# Altium footprint library Gennum Footprints.PcbLib: 88 footprints (part 1 of 6)
Each footprint in its own frame and in the unit in brackets; x right, y up, seen from the top. Pads: shape width x height; smd on the part's side, far side on the other; paste and mask are expansions set on the pad; w line width, h text height; cw(c..) or ccw(c..) is an arc to the next point about the centre after c.
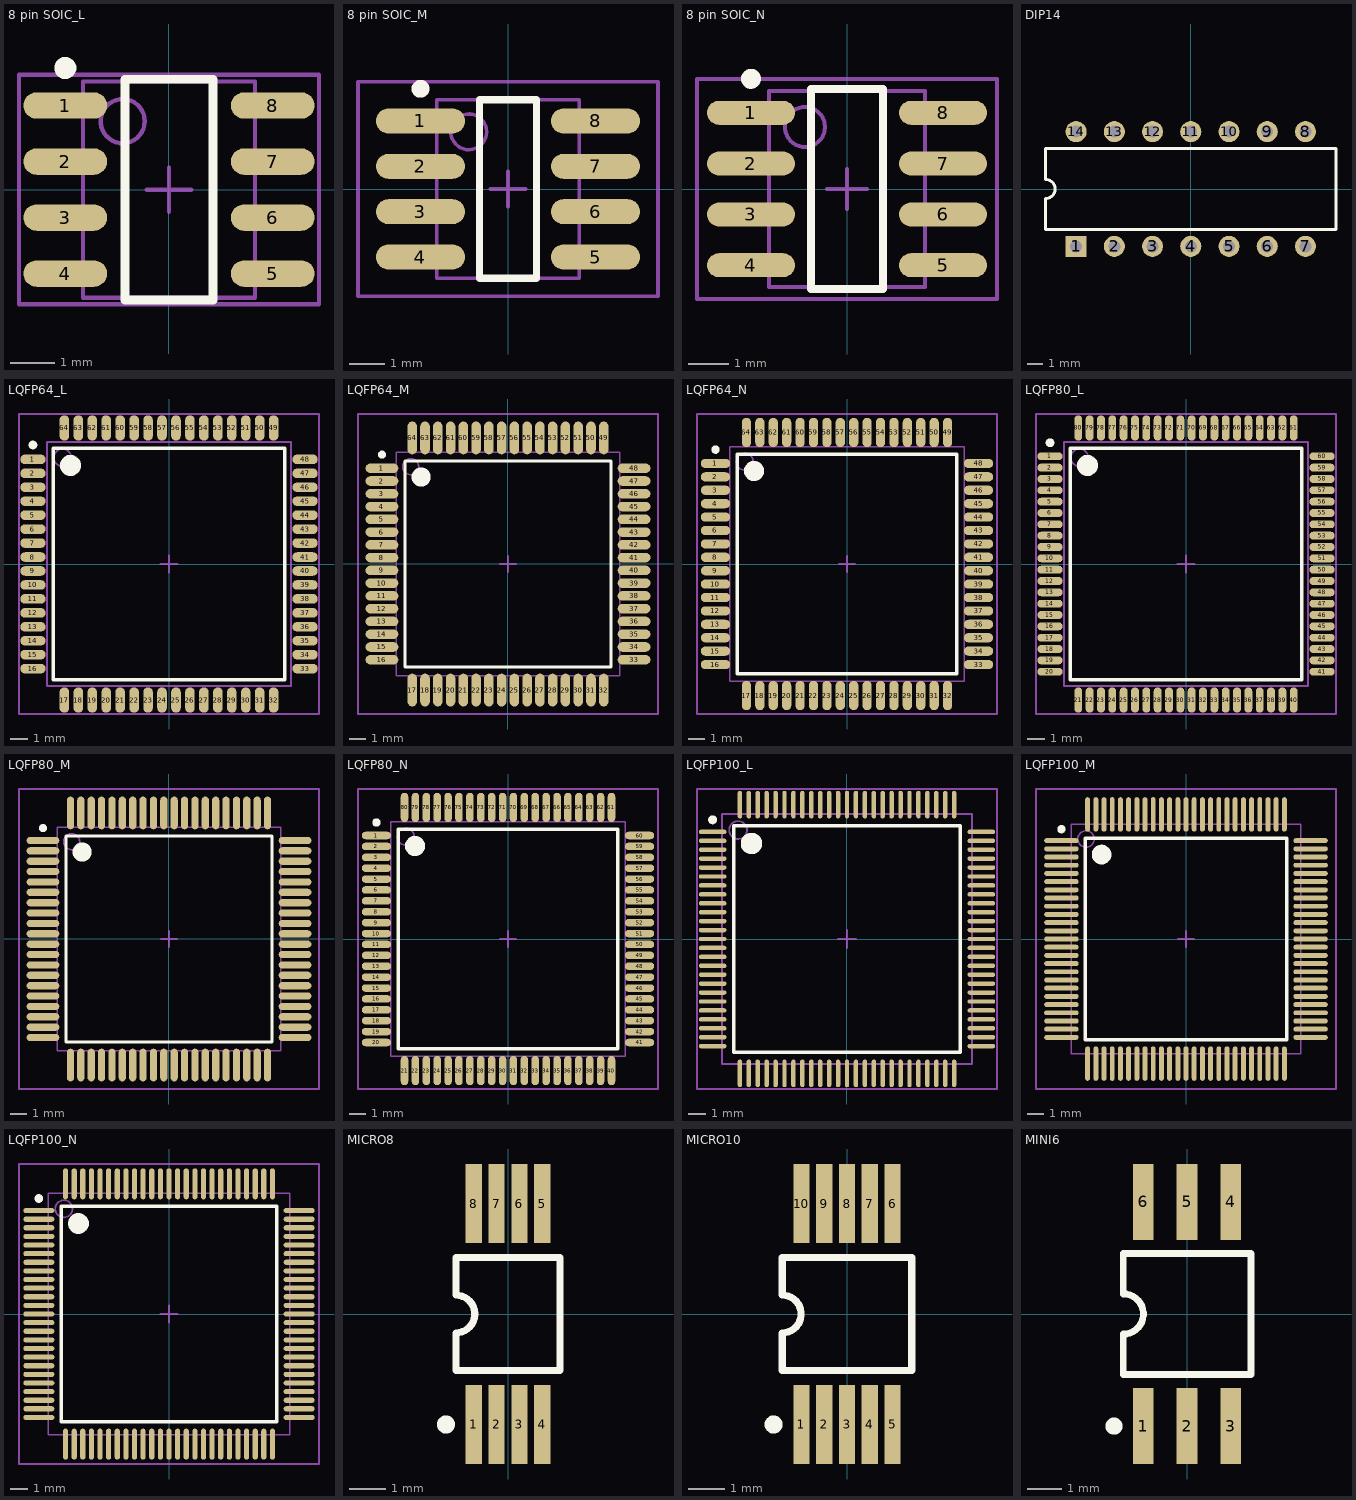
[diagram p0: the footprints below, top view; thin cyan lines are the x and y axes]

## 8 pin SOIC_L [mm] "8-Pin Small Outline Integrated Circuit 1.27 mm Pitch, IPC High Density"
height 1.91
pads (8):
  oval 1.9x0.6 smd: 1(-2.35,1.905) 2(-2.35,0.635) 3(-2.35,-0.635) 4(-2.35,-1.905) 5(2.35,-1.905) 6(2.35,-0.635) 7(2.35,0.635) 8(2.35,1.905)
Top Overlay:
  circle w0.25: c-2.35,2.755 r0.125
  lines w0.2: -1,-2.5 1,-2.5 1,2.5 -1,2.5 -1,-2.5
Mechanical 13:
  circle w0.1: c-1.05,1.55 r0.5
  lines w0.1: -1.95,-2.45 1.95,-2.45 1.95,2.45 -1.95,2.45 -1.95,-2.45
Mechanical 15:
  lines w0.1: -0.5,0 0.5,0 ; 0,-0.5 0,0.5 ; -3.4,-2.6 3.4,-2.6 3.4,2.6 -3.4,2.6 -3.4,-2.6
3D body: height 1.91, standoff 0, extent -1.95,-2.45 1.95,2.45

## 8 pin SOIC_M [mm] "8-Pin Small Outline Integrated Circuit 1.27 mm Pitch, IPC Low Density"
height 1.91
pads (8):
  oval 2.5x0.7 smd: 1(-2.45,1.905) 2(-2.45,0.635) 3(-2.45,-0.635) 4(-2.45,-1.905) 5(2.45,-1.905) 6(2.45,-0.635) 7(2.45,0.635) 8(2.45,1.905)
Top Overlay:
  circle w0.25: c-2.45,2.805 r0.125
  lines w0.2: -0.8,-2.5 -0.8,2.5 0.8,2.5 0.8,-2.5 -0.8,-2.5
Mechanical 13:
  circle w0.1: c-1.1,1.6 r0.5
  lines w0.1: -2,-2.5 -2,2.5 2,2.5 2,-2.5 -2,-2.5
Mechanical 15:
  lines w0.1: -0.5,0 0.5,0 ; 0,-0.5 0,0.5 ; -4.2,-3 -4.2,3 4.2,3 4.2,-3 -4.2,-3
3D body: height 1.91, standoff 0, extent -2,-2.5 2,2.5

## 8 pin SOIC_N [mm] "8-Pin Small Outline Integrated Circuit 1.27 mm Pitch, IPC Medium Density"
height 1.91
pads (8):
  oval 2.2x0.6 smd: 1(-2.4,1.905) 2(-2.4,0.635) 3(-2.4,-0.635) 4(-2.4,-1.905) 5(2.4,-1.905) 6(2.4,-0.635) 7(2.4,0.635) 8(2.4,1.905)
Top Overlay:
  circle w0.25: c-2.4,2.755 r0.125
  lines w0.2: -0.9,-2.5 -0.9,2.5 0.9,2.5 0.9,-2.5 -0.9,-2.5
Mechanical 13:
  circle w0.1: c-1.05,1.55 r0.5
  lines w0.1: -1.95,-2.45 -1.95,2.45 1.95,2.45 1.95,-2.45 -1.95,-2.45
Mechanical 15:
  lines w0.1: -0.5,0 0.5,0 ; 0,-0.5 0,0.5 ; -3.75,-2.75 -3.75,2.75 3.75,2.75 3.75,-2.75 -3.75,-2.75
3D body: height 1.91, standoff 0, extent -1.95,-2.45 1.95,2.45

## DIP14 [mm] "DIP; 14 Leads; Row Spacing 7.62 mm; Pitch 2.54 mm"
height 4
pads (14):
  rect 1.4x1.4 hole 0.8: 1(-7.62,-3.81)
  round 1.4 hole 0.8: 2(-5.08,-3.81) 3(-2.54,-3.81) 4(0,-3.81) 5(2.54,-3.81) 6(5.08,-3.81) 7(7.62,-3.81) 8(7.62,3.81) 9(5.08,3.81) 10(2.54,3.81) 11(0,3.81) 12(-2.54,3.81) 13(-5.08,3.81) 14(-7.62,3.81)
Top Overlay:
  lines w0.2: -9.65,-2.7 9.65,-2.7 9.65,2.7 -9.65,2.7 -9.65,0.635 cw(c-9.65,0) -9.65,-0.635 -9.65,-2.7

## LQFP64_L [mm] "64-Pin Thin Quad Flat Pack 0.8 mm Pitch, IPC High Density"
height 1.6
pads (64):
  oval 1.45x0.55 smd: 1(-7.8,6) 2(-7.8,5.2) 3(-7.8,4.4) 4(-7.8,3.6) 5(-7.8,2.8) 6(-7.8,2) 7(-7.8,1.2) 8(-7.8,0.4) 9(-7.8,-0.4) 10(-7.8,-1.2) 11(-7.8,-2) 12(-7.8,-2.8) 13(-7.8,-3.6) 14(-7.8,-4.4) 15(-7.8,-5.2) 16(-7.8,-6) 33(7.8,-6) 34(7.8,-5.2) 35(7.8,-4.4) 36(7.8,-3.6) 37(7.8,-2.8) 38(7.8,-2) 39(7.8,-1.2) 40(7.8,-0.4) 41(7.8,0.4) 42(7.8,1.2) 43(7.8,2) 44(7.8,2.8) 45(7.8,3.6) 46(7.8,4.4) 47(7.8,5.2) 48(7.8,6)
  oval 0.55x1.45 smd: 17(-6,-7.8) 18(-5.2,-7.8) 19(-4.4,-7.8) 20(-3.6,-7.8) 21(-2.8,-7.8) 22(-2,-7.8) 23(-1.2,-7.8) 24(-0.4,-7.8) 25(0.4,-7.8) 26(1.2,-7.8) 27(2,-7.8) 28(2.8,-7.8) 29(3.6,-7.8) 30(4.4,-7.8) 31(5.2,-7.8) 32(6,-7.8) 49(6,7.8) 50(5.2,7.8) 51(4.4,7.8) 52(3.6,7.8) 53(2.8,7.8) 54(2,7.8) 55(1.2,7.8) 56(0.4,7.8) 57(-0.4,7.8) 58(-1.2,7.8) 59(-2,7.8) 60(-2.8,7.8) 61(-3.6,7.8) 62(-4.4,7.8) 63(-5.2,7.8) 64(-6,7.8)
Top Overlay:
  circle w0.6: c-5.65,5.65 r0.3
  circle w0.25: c-7.8,6.825 r0.125
  lines w0.2: -6.65,-6.65 6.65,-6.65 6.65,6.65 -6.65,6.65 -6.65,-6.65
Mechanical 13:
  circle w0.1: c-6.1,6.1 r0.5
  lines w0.1: -7,-7 7,-7 7,7 -7,7 -7,-7
Mechanical 15:
  lines w0.1: -0.5,0 0.5,0 ; 0,-0.5 0,0.5 ; -8.6,-8.6 8.6,-8.6 8.6,8.6 -8.6,8.6 -8.6,-8.6
3D body: height 1.6, standoff 0, extent -7,-7 7,7

## LQFP64_M [mm] "64-Pin Thin Quad Flat Pack 0.8 mm Pitch, IPC Low Density"
height 1.6
pads (64):
  oval 2.05x0.6 smd: 1(-7.9,6) 2(-7.9,5.2) 3(-7.9,4.4) 4(-7.9,3.6) 5(-7.9,2.8) 6(-7.9,2) 7(-7.9,1.2) 8(-7.9,0.4) 9(-7.9,-0.4) 10(-7.9,-1.2) 11(-7.9,-2) 12(-7.9,-2.8) 13(-7.9,-3.6) 14(-7.9,-4.4) 15(-7.9,-5.2) 16(-7.9,-6) 33(7.9,-6) 34(7.9,-5.2) 35(7.9,-4.4) 36(7.9,-3.6) 37(7.9,-2.8) 38(7.9,-2) 39(7.9,-1.2) 40(7.9,-0.4) 41(7.9,0.4) 42(7.9,1.2) 43(7.9,2) 44(7.9,2.8) 45(7.9,3.6) 46(7.9,4.4) 47(7.9,5.2) 48(7.9,6)
  oval 0.6x2.05 smd: 17(-6,-7.9) 18(-5.2,-7.9) 19(-4.4,-7.9) 20(-3.6,-7.9) 21(-2.8,-7.9) 22(-2,-7.9) 23(-1.2,-7.9) 24(-0.4,-7.9) 25(0.4,-7.9) 26(1.2,-7.9) 27(2,-7.9) 28(2.8,-7.9) 29(3.6,-7.9) 30(4.4,-7.9) 31(5.2,-7.9) 32(6,-7.9) 49(6,7.9) 50(5.2,7.9) 51(4.4,7.9) 52(3.6,7.9) 53(2.8,7.9) 54(2,7.9) 55(1.2,7.9) 56(0.4,7.9) 57(-0.4,7.9) 58(-1.2,7.9) 59(-2,7.9) 60(-2.8,7.9) 61(-3.6,7.9) 62(-4.4,7.9) 63(-5.2,7.9) 64(-6,7.9)
Top Overlay:
  circle w0.6: c-5.45,5.45 r0.3
  circle w0.25: c-7.9,6.85 r0.125
  lines w0.2: -6.45,-6.45 6.45,-6.45 6.45,6.45 -6.45,6.45 -6.45,-6.45
Mechanical 13:
  circle w0.1: c-6.1,6.1 r0.5
  lines w0.1: -7,-7 7,-7 7,7 -7,7 -7,-7
Mechanical 15:
  lines w0.1: -0.5,0 0.5,0 ; 0,-0.5 0,0.5 ; -9.4,-9.4 9.4,-9.4 9.4,9.4 -9.4,9.4 -9.4,-9.4
3D body: height 1.6, standoff 0, extent -7,-7 7,7

## LQFP64_N [mm] "64-Pin Thin Quad Flat Pack 0.8 mm Pitch, IPC Medium Density"
height 1.6
pads (64):
  oval 1.75x0.55 smd: 1(-7.85,6) 2(-7.85,5.2) 3(-7.85,4.4) 4(-7.85,3.6) 5(-7.85,2.8) 6(-7.85,2) 7(-7.85,1.2) 8(-7.85,0.4) 9(-7.85,-0.4) 10(-7.85,-1.2) 11(-7.85,-2) 12(-7.85,-2.8) 13(-7.85,-3.6) 14(-7.85,-4.4) 15(-7.85,-5.2) 16(-7.85,-6) 33(7.85,-6) 34(7.85,-5.2) 35(7.85,-4.4) 36(7.85,-3.6) 37(7.85,-2.8) 38(7.85,-2) 39(7.85,-1.2) 40(7.85,-0.4) 41(7.85,0.4) 42(7.85,1.2) 43(7.85,2) 44(7.85,2.8) 45(7.85,3.6) 46(7.85,4.4) 47(7.85,5.2) 48(7.85,6)
  oval 0.55x1.75 smd: 17(-6,-7.85) 18(-5.2,-7.85) 19(-4.4,-7.85) 20(-3.6,-7.85) 21(-2.8,-7.85) 22(-2,-7.85) 23(-1.2,-7.85) 24(-0.4,-7.85) 25(0.4,-7.85) 26(1.2,-7.85) 27(2,-7.85) 28(2.8,-7.85) 29(3.6,-7.85) 30(4.4,-7.85) 31(5.2,-7.85) 32(6,-7.85) 49(6,7.85) 50(5.2,7.85) 51(4.4,7.85) 52(3.6,7.85) 53(2.8,7.85) 54(2,7.85) 55(1.2,7.85) 56(0.4,7.85) 57(-0.4,7.85) 58(-1.2,7.85) 59(-2,7.85) 60(-2.8,7.85) 61(-3.6,7.85) 62(-4.4,7.85) 63(-5.2,7.85) 64(-6,7.85)
Top Overlay:
  circle w0.6: c-5.55,5.55 r0.3
  circle w0.25: c-7.85,6.825 r0.125
  lines w0.2: -6.55,-6.55 6.55,-6.55 6.55,6.55 -6.55,6.55 -6.55,-6.55
Mechanical 13:
  circle w0.1: c-6.1,6.1 r0.5
  lines w0.1: -7,-7 7,-7 7,7 -7,7 -7,-7
Mechanical 15:
  lines w0.1: -0.5,0 0.5,0 ; 0,-0.5 0,0.5 ; -8.95,-8.95 8.95,-8.95 8.95,8.95 -8.95,8.95 -8.95,-8.95
3D body: height 1.6, standoff 0, extent -7,-7 7,7

## LQFP80_L [mm] "80-Pin Thin Quad Flat Pack 0.65 mm Pitch, IPC High Density"
height 1.6
pads (80):
  oval 1.45x0.45 smd: 1(-7.8,6.175) 2(-7.8,5.525) 3(-7.8,4.875) 4(-7.8,4.225) 5(-7.8,3.575) 6(-7.8,2.925) 7(-7.8,2.275) 8(-7.8,1.625) 9(-7.8,0.975) 10(-7.8,0.325) 11(-7.8,-0.325) 12(-7.8,-0.975) 13(-7.8,-1.625) 14(-7.8,-2.275) 15(-7.8,-2.925) 16(-7.8,-3.575) 17(-7.8,-4.225) 18(-7.8,-4.875) 19(-7.8,-5.525) 20(-7.8,-6.175) 41(7.8,-6.175) 42(7.8,-5.525) 43(7.8,-4.875) 44(7.8,-4.225) 45(7.8,-3.575) 46(7.8,-2.925) 47(7.8,-2.275) 48(7.8,-1.625) 49(7.8,-0.975) 50(7.8,-0.325) 51(7.8,0.325) 52(7.8,0.975) 53(7.8,1.625) 54(7.8,2.275) 55(7.8,2.925) 56(7.8,3.575) 57(7.8,4.225) 58(7.8,4.875) 59(7.8,5.525) 60(7.8,6.175)
  oval 0.45x1.45 smd: 21(-6.175,-7.8) 22(-5.525,-7.8) 23(-4.875,-7.8) 24(-4.225,-7.8) 25(-3.575,-7.8) 26(-2.925,-7.8) 27(-2.275,-7.8) 28(-1.625,-7.8) 29(-0.975,-7.8) 30(-0.325,-7.8) 31(0.325,-7.8) 32(0.975,-7.8) 33(1.625,-7.8) 34(2.275,-7.8) 35(2.925,-7.8) 36(3.575,-7.8) 37(4.225,-7.8) 38(4.875,-7.8) 39(5.525,-7.8) 40(6.175,-7.8) 61(6.175,7.8) 62(5.525,7.8) 63(4.875,7.8) 64(4.225,7.8) 65(3.575,7.8) 66(2.925,7.8) 67(2.275,7.8) 68(1.625,7.8) 69(0.975,7.8) 70(0.325,7.8) 71(-0.325,7.8) 72(-0.975,7.8) 73(-1.625,7.8) 74(-2.275,7.8) 75(-2.925,7.8) 76(-3.575,7.8) 77(-4.225,7.8) 78(-4.875,7.8) 79(-5.525,7.8) 80(-6.175,7.8)
Top Overlay:
  circle w0.25: c-7.8,6.95 r0.125
  circle w0.6: c-5.65,5.65 r0.3
  lines w0.2: -6.65,-6.65 -6.65,6.65 6.65,6.65 6.65,-6.65 -6.65,-6.65
Mechanical 13:
  circle w0.1: c-6.1,6.1 r0.5
  lines w0.1: -7,-7 -7,7 7,7 7,-7 -7,-7
Mechanical 15:
  lines w0.1: -0.5,0 0.5,0 ; 0,-0.5 0,0.5 ; -8.6,-8.6 -8.6,8.6 8.6,8.6 8.6,-8.6 -8.6,-8.6
3D body: height 1.6, standoff 0, extent -7,-7 7,7

## LQFP80_M [mm] "80-Pin Thin Quad Flat Pack 0.65 mm Pitch, IPC Low Density"
height 1.6
pads (80):
  oval 2.05x0.45 smd: 1(-7.9,6.175) 2(-7.9,5.525) 3(-7.9,4.875) 4(-7.9,4.225) 5(-7.9,3.575) 6(-7.9,2.925) 7(-7.9,2.275) 8(-7.9,1.625) 9(-7.9,0.975) 10(-7.9,0.325) 11(-7.9,-0.325) 12(-7.9,-0.975) 13(-7.9,-1.625) 14(-7.9,-2.275) 15(-7.9,-2.925) 16(-7.9,-3.575) 17(-7.9,-4.225) 18(-7.9,-4.875) 19(-7.9,-5.525) 20(-7.9,-6.175) 41(7.9,-6.175) 42(7.9,-5.525) 43(7.9,-4.875) 44(7.9,-4.225) 45(7.9,-3.575) 46(7.9,-2.925) 47(7.9,-2.275) 48(7.9,-1.625) 49(7.9,-0.975) 50(7.9,-0.325) 51(7.9,0.325) 52(7.9,0.975) 53(7.9,1.625) 54(7.9,2.275) 55(7.9,2.925) 56(7.9,3.575) 57(7.9,4.225) 58(7.9,4.875) 59(7.9,5.525) 60(7.9,6.175)
  oval 0.45x2.05 smd: 21(-6.175,-7.9) 22(-5.525,-7.9) 23(-4.875,-7.9) 24(-4.225,-7.9) 25(-3.575,-7.9) 26(-2.925,-7.9) 27(-2.275,-7.9) 28(-1.625,-7.9) 29(-0.975,-7.9) 30(-0.325,-7.9) 31(0.325,-7.9) 32(0.975,-7.9) 33(1.625,-7.9) 34(2.275,-7.9) 35(2.925,-7.9) 36(3.575,-7.9) 37(4.225,-7.9) 38(4.875,-7.9) 39(5.525,-7.9) 40(6.175,-7.9) 61(6.175,7.9) 62(5.525,7.9) 63(4.875,7.9) 64(4.225,7.9) 65(3.575,7.9) 66(2.925,7.9) 67(2.275,7.9) 68(1.625,7.9) 69(0.975,7.9) 70(0.325,7.9) 71(-0.325,7.9) 72(-0.975,7.9) 73(-1.625,7.9) 74(-2.275,7.9) 75(-2.925,7.9) 76(-3.575,7.9) 77(-4.225,7.9) 78(-4.875,7.9) 79(-5.525,7.9) 80(-6.175,7.9)
Top Overlay:
  circle w0.6: c-5.45,5.45 r0.3
  circle w0.25: c-7.9,6.95 r0.125
  lines w0.2: -6.45,-6.45 6.45,-6.45 6.45,6.45 -6.45,6.45 -6.45,-6.45
Mechanical 13:
  circle w0.1: c-6.1,6.1 r0.5
  lines w0.1: -7,-7 7,-7 7,7 -7,7 -7,-7
Mechanical 15:
  lines w0.1: -0.5,0 0.5,0 ; 0,-0.5 0,0.5 ; -9.4,-9.4 9.4,-9.4 9.4,9.4 -9.4,9.4 -9.4,-9.4
3D body: height 1.6, standoff 0, extent -7,-7 7,7

## LQFP80_N [mm] "80-Pin Thin Quad Flat Pack 0.65 mm Pitch, IPC Medium Density"
height 1.6
pads (80):
  oval 1.75x0.45 smd: 1(-7.85,6.175) 2(-7.85,5.525) 3(-7.85,4.875) 4(-7.85,4.225) 5(-7.85,3.575) 6(-7.85,2.925) 7(-7.85,2.275) 8(-7.85,1.625) 9(-7.85,0.975) 10(-7.85,0.325) 11(-7.85,-0.325) 12(-7.85,-0.975) 13(-7.85,-1.625) 14(-7.85,-2.275) 15(-7.85,-2.925) 16(-7.85,-3.575) 17(-7.85,-4.225) 18(-7.85,-4.875) 19(-7.85,-5.525) 20(-7.85,-6.175) 41(7.85,-6.175) 42(7.85,-5.525) 43(7.85,-4.875) 44(7.85,-4.225) 45(7.85,-3.575) 46(7.85,-2.925) 47(7.85,-2.275) 48(7.85,-1.625) 49(7.85,-0.975) 50(7.85,-0.325) 51(7.85,0.325) 52(7.85,0.975) 53(7.85,1.625) 54(7.85,2.275) 55(7.85,2.925) 56(7.85,3.575) 57(7.85,4.225) 58(7.85,4.875) 59(7.85,5.525) 60(7.85,6.175)
  oval 0.45x1.75 smd: 21(-6.175,-7.85) 22(-5.525,-7.85) 23(-4.875,-7.85) 24(-4.225,-7.85) 25(-3.575,-7.85) 26(-2.925,-7.85) 27(-2.275,-7.85) 28(-1.625,-7.85) 29(-0.975,-7.85) 30(-0.325,-7.85) 31(0.325,-7.85) 32(0.975,-7.85) 33(1.625,-7.85) 34(2.275,-7.85) 35(2.925,-7.85) 36(3.575,-7.85) 37(4.225,-7.85) 38(4.875,-7.85) 39(5.525,-7.85) 40(6.175,-7.85) 61(6.175,7.85) 62(5.525,7.85) 63(4.875,7.85) 64(4.225,7.85) 65(3.575,7.85) 66(2.925,7.85) 67(2.275,7.85) 68(1.625,7.85) 69(0.975,7.85) 70(0.325,7.85) 71(-0.325,7.85) 72(-0.975,7.85) 73(-1.625,7.85) 74(-2.275,7.85) 75(-2.925,7.85) 76(-3.575,7.85) 77(-4.225,7.85) 78(-4.875,7.85) 79(-5.525,7.85) 80(-6.175,7.85)
Top Overlay:
  circle w0.6: c-5.55,5.55 r0.3
  circle w0.25: c-7.85,6.95 r0.125
  lines w0.2: -6.55,-6.55 6.55,-6.55 6.55,6.55 -6.55,6.55 -6.55,-6.55
Mechanical 13:
  circle w0.1: c-6.1,6.1 r0.5
  lines w0.1: -7,-7 7,-7 7,7 -7,7 -7,-7
Mechanical 15:
  lines w0.1: -0.5,0 0.5,0 ; 0,-0.5 0,0.5 ; -8.95,-8.95 8.95,-8.95 8.95,8.95 -8.95,8.95 -8.95,-8.95
3D body: height 1.6, standoff 0, extent -7,-7 7,7

## LQFP100_L [mm] "100-Pin Shrink Quad Flat Pack 0.5 mm Pitch, IPC High Density"
height 1.7
pads (100):
  oval 1.55x0.25 smd: 1(-7.525,6) 2(-7.525,5.5) 3(-7.525,5) 4(-7.525,4.5) 5(-7.525,4) 6(-7.525,3.5) 7(-7.525,3) 8(-7.525,2.5) 9(-7.525,2) 10(-7.525,1.5) 11(-7.525,1) 12(-7.525,0.5) 13(-7.525,0) 14(-7.525,-0.5) 15(-7.525,-1) 16(-7.525,-1.5) 17(-7.525,-2) 18(-7.525,-2.5) 19(-7.525,-3) 20(-7.525,-3.5) 21(-7.525,-4) 22(-7.525,-4.5) 23(-7.525,-5) 24(-7.525,-5.5) 25(-7.525,-6) 51(7.525,-6) 52(7.525,-5.5) 53(7.525,-5) 54(7.525,-4.5) 55(7.525,-4) 56(7.525,-3.5) 57(7.525,-3) 58(7.525,-2.5) 59(7.525,-2) 60(7.525,-1.5) 61(7.525,-1) 62(7.525,-0.5) 63(7.525,0) 64(7.525,0.5) 65(7.525,1) 66(7.525,1.5) 67(7.525,2) 68(7.525,2.5) 69(7.525,3) 70(7.525,3.5) 71(7.525,4) 72(7.525,4.5) 73(7.525,5) 74(7.525,5.5) 75(7.525,6)
  oval 0.25x1.55 smd: 26(-6,-7.525) 27(-5.5,-7.525) 28(-5,-7.525) 29(-4.5,-7.525) 30(-4,-7.525) 31(-3.5,-7.525) 32(-3,-7.525) 33(-2.5,-7.525) 34(-2,-7.525) 35(-1.5,-7.525) 36(-1,-7.525) 37(-0.5,-7.525) 38(0,-7.525) 39(0.5,-7.525) 40(1,-7.525) 41(1.5,-7.525) 42(2,-7.525) 43(2.5,-7.525) 44(3,-7.525) 45(3.5,-7.525) 46(4,-7.525) 47(4.5,-7.525) 48(5,-7.525) 49(5.5,-7.525) 50(6,-7.525) 76(6,7.525) 77(5.5,7.525) 78(5,7.525) 79(4.5,7.525) 80(4,7.525) 81(3.5,7.525) 82(3,7.525) 83(2.5,7.525) 84(2,7.525) 85(1.5,7.525) 86(1,7.525) 87(0.5,7.525) 88(0,7.525) 89(-0.5,7.525) 90(-1,7.525) 91(-1.5,7.525) 92(-2,7.525) 93(-2.5,7.525) 94(-3,7.525) 95(-3.5,7.525) 96(-4,7.525) 97(-4.5,7.525) 98(-5,7.525) 99(-5.5,7.525) 100(-6,7.525)
Top Overlay:
  circle w0.6: c-5.35,5.35 r0.3
  circle w0.25: c-7.525,6.675 r0.125
  lines w0.2: -6.35,-6.35 6.35,-6.35 6.35,6.35 -6.35,6.35 -6.35,-6.35
Mechanical 13:
  circle w0.1: c-6.1,6.1 r0.5
  lines w0.1: -7,-7 7,-7 7,7 -7,7 -7,-7
Mechanical 15:
  lines w0.1: -0.5,0 0.5,0 ; 0,-0.5 0,0.5 ; -8.4,-8.4 8.4,-8.4 8.4,8.4 -8.4,8.4 -8.4,-8.4
3D body: height 1.7, standoff 0, extent -7,-7 7,7

## LQFP100_M [mm] "100-Pin Shrink Quad Flat Pack 0.5 mm Pitch, IPC Low Density"
height 1.7
pads (100):
  oval 2.1x0.3 smd: 1(-7.6,6) 2(-7.6,5.5) 3(-7.6,5) 4(-7.6,4.5) 5(-7.6,4) 6(-7.6,3.5) 7(-7.6,3) 8(-7.6,2.5) 9(-7.6,2) 10(-7.6,1.5) 11(-7.6,1) 12(-7.6,0.5) 13(-7.6,0) 14(-7.6,-0.5) 15(-7.6,-1) 16(-7.6,-1.5) 17(-7.6,-2) 18(-7.6,-2.5) 19(-7.6,-3) 20(-7.6,-3.5) 21(-7.6,-4) 22(-7.6,-4.5) 23(-7.6,-5) 24(-7.6,-5.5) 25(-7.6,-6) 51(7.6,-6) 52(7.6,-5.5) 53(7.6,-5) 54(7.6,-4.5) 55(7.6,-4) 56(7.6,-3.5) 57(7.6,-3) 58(7.6,-2.5) 59(7.6,-2) 60(7.6,-1.5) 61(7.6,-1) 62(7.6,-0.5) 63(7.6,0) 64(7.6,0.5) 65(7.6,1) 66(7.6,1.5) 67(7.6,2) 68(7.6,2.5) 69(7.6,3) 70(7.6,3.5) 71(7.6,4) 72(7.6,4.5) 73(7.6,5) 74(7.6,5.5) 75(7.6,6)
  oval 0.3x2.1 smd: 26(-6,-7.6) 27(-5.5,-7.6) 28(-5,-7.6) 29(-4.5,-7.6) 30(-4,-7.6) 31(-3.5,-7.6) 32(-3,-7.6) 33(-2.5,-7.6) 34(-2,-7.6) 35(-1.5,-7.6) 36(-1,-7.6) 37(-0.5,-7.6) 38(0,-7.6) 39(0.5,-7.6) 40(1,-7.6) 41(1.5,-7.6) 42(2,-7.6) 43(2.5,-7.6) 44(3,-7.6) 45(3.5,-7.6) 46(4,-7.6) 47(4.5,-7.6) 48(5,-7.6) 49(5.5,-7.6) 50(6,-7.6) 76(6,7.6) 77(5.5,7.6) 78(5,7.6) 79(4.5,7.6) 80(4,7.6) 81(3.5,7.6) 82(3,7.6) 83(2.5,7.6) 84(2,7.6) 85(1.5,7.6) 86(1,7.6) 87(0.5,7.6) 88(0,7.6) 89(-0.5,7.6) 90(-1,7.6) 91(-1.5,7.6) 92(-2,7.6) 93(-2.5,7.6) 94(-3,7.6) 95(-3.5,7.6) 96(-4,7.6) 97(-4.5,7.6) 98(-5,7.6) 99(-5.5,7.6) 100(-6,7.6)
Top Overlay:
  circle w0.6: c-5.15,5.15 r0.3
  circle w0.25: c-7.6,6.7 r0.125
  lines w0.2: -6.15,-6.15 6.15,-6.15 6.15,6.15 -6.15,6.15 -6.15,-6.15
Mechanical 13:
  circle w0.1: c-6.1,6.1 r0.5
  lines w0.1: -7,-7 7,-7 7,7 -7,7 -7,-7
Mechanical 15:
  lines w0.1: -0.5,0 0.5,0 ; 0,-0.5 0,0.5 ; -9.15,-9.15 9.15,-9.15 9.15,9.15 -9.15,9.15 -9.15,-9.15
3D body: height 1.7, standoff 0, extent -7,-7 7,7

## LQFP100_N [mm] "100-Pin Shrink Quad Flat Pack 0.5 mm Pitch, IPC Medium Density"
height 1.7
pads (100):
  oval 1.8x0.3 smd: 1(-7.55,6) 2(-7.55,5.5) 3(-7.55,5) 4(-7.55,4.5) 5(-7.55,4) 6(-7.55,3.5) 7(-7.55,3) 8(-7.55,2.5) 9(-7.55,2) 10(-7.55,1.5) 11(-7.55,1) 12(-7.55,0.5) 13(-7.55,0) 14(-7.55,-0.5) 15(-7.55,-1) 16(-7.55,-1.5) 17(-7.55,-2) 18(-7.55,-2.5) 19(-7.55,-3) 20(-7.55,-3.5) 21(-7.55,-4) 22(-7.55,-4.5) 23(-7.55,-5) 24(-7.55,-5.5) 25(-7.55,-6) 51(7.55,-6) 52(7.55,-5.5) 53(7.55,-5) 54(7.55,-4.5) 55(7.55,-4) 56(7.55,-3.5) 57(7.55,-3) 58(7.55,-2.5) 59(7.55,-2) 60(7.55,-1.5) 61(7.55,-1) 62(7.55,-0.5) 63(7.55,0) 64(7.55,0.5) 65(7.55,1) 66(7.55,1.5) 67(7.55,2) 68(7.55,2.5) 69(7.55,3) 70(7.55,3.5) 71(7.55,4) 72(7.55,4.5) 73(7.55,5) 74(7.55,5.5) 75(7.55,6)
  oval 0.3x1.8 smd: 26(-6,-7.55) 27(-5.5,-7.55) 28(-5,-7.55) 29(-4.5,-7.55) 30(-4,-7.55) 31(-3.5,-7.55) 32(-3,-7.55) 33(-2.5,-7.55) 34(-2,-7.55) 35(-1.5,-7.55) 36(-1,-7.55) 37(-0.5,-7.55) 38(0,-7.55) 39(0.5,-7.55) 40(1,-7.55) 41(1.5,-7.55) 42(2,-7.55) 43(2.5,-7.55) 44(3,-7.55) 45(3.5,-7.55) 46(4,-7.55) 47(4.5,-7.55) 48(5,-7.55) 49(5.5,-7.55) 50(6,-7.55) 76(6,7.55) 77(5.5,7.55) 78(5,7.55) 79(4.5,7.55) 80(4,7.55) 81(3.5,7.55) 82(3,7.55) 83(2.5,7.55) 84(2,7.55) 85(1.5,7.55) 86(1,7.55) 87(0.5,7.55) 88(0,7.55) 89(-0.5,7.55) 90(-1,7.55) 91(-1.5,7.55) 92(-2,7.55) 93(-2.5,7.55) 94(-3,7.55) 95(-3.5,7.55) 96(-4,7.55) 97(-4.5,7.55) 98(-5,7.55) 99(-5.5,7.55) 100(-6,7.55)
Top Overlay:
  circle w0.6: c-5.25,5.25 r0.3
  circle w0.25: c-7.55,6.7 r0.125
  lines w0.2: -6.25,-6.25 6.25,-6.25 6.25,6.25 -6.25,6.25 -6.25,-6.25
Mechanical 13:
  circle w0.1: c-6.1,6.1 r0.5
  lines w0.1: -7,-7 7,-7 7,7 -7,7 -7,-7
Mechanical 15:
  lines w0.1: -0.5,0 0.5,0 ; 0,-0.5 0,0.5 ; -8.7,-8.7 8.7,-8.7 8.7,8.7 -8.7,8.7 -8.7,-8.7
3D body: height 1.7, standoff 0, extent -7,-7 7,7

## MICRO8 [mm] "DFP; 8 Leads; Body 2.9 x 3.3 mm (LxW max); Pitch 0.635 mm"
height 1.2
pads (8):
  rect 0.45x2.2 smd: 1(-0.953,-3.075) 2(-0.318,-3.075) 3(0.318,-3.075) 4(0.953,-3.075) 5(0.953,3.075) 6(0.318,3.075) 7(-0.318,3.075) 8(-0.953,3.075)
Top Overlay:
  circle w0.25: c-1.727,-3.075 r0.125
  lines w0.2: -1.45,-1.575 -1.45,-0.525 ccw(c-1.45,0) -1.45,0.525 -1.45,1.575 1.45,1.575 1.45,-1.575 -1.45,-1.575

## MICRO10 [mm] "DFP; 10 Leads; Body 3.6 x 3.3 mm (LxW max); Pitch 0.635 mm"
height 1.2
pads (10):
  rect 0.45x2.2 smd: 1(-1.27,-3.075) 2(-0.635,-3.075) 3(0,-3.075) 4(0.635,-3.075) 5(1.27,-3.075) 6(1.27,3.075) 7(0.635,3.075) 8(0,3.075) 9(-0.635,3.075) 10(-1.27,3.075)
Top Overlay:
  circle w0.25: c-2.045,-3.075 r0.125
  lines w0.2: -1.8,-1.575 1.8,-1.575 1.8,1.575 -1.8,1.575 -1.8,0.525 cw(c-1.8,0) -1.8,-0.525 -1.8,-1.575

## MINI6 [mm] "DFP; 6 Leads; Body 3.7 x 3.6 mm (LxW max); Pitch 1.27 mm"
height 1.8
pads (6):
  rect 0.6x2.2 smd: 1(-1.27,-3.25) 2(0,-3.25) 3(1.27,-3.25) 4(1.27,3.25) 5(0,3.25) 6(-1.27,3.25)
Top Overlay:
  circle w0.25: c-2.12,-3.25 r0.125
  lines w0.2: -1.85,-1.75 1.85,-1.75 1.85,1.75 -1.85,1.75 -1.85,0.583 cw(c-1.85,0) -1.85,-0.583 -1.85,-1.75